# Altium footprint library Capacitor_THT.PcbLib: 378 footprints (part 16 of 24)
Each footprint in its own frame and in the unit in brackets; x right, y up, seen from the top. Pads: shape width x height; smd on the part's side, far side on the other; paste and mask are expansions set on the pad; w line width, h text height; cw(c..) or ccw(c..) is an arc to the next point about the centre after c.
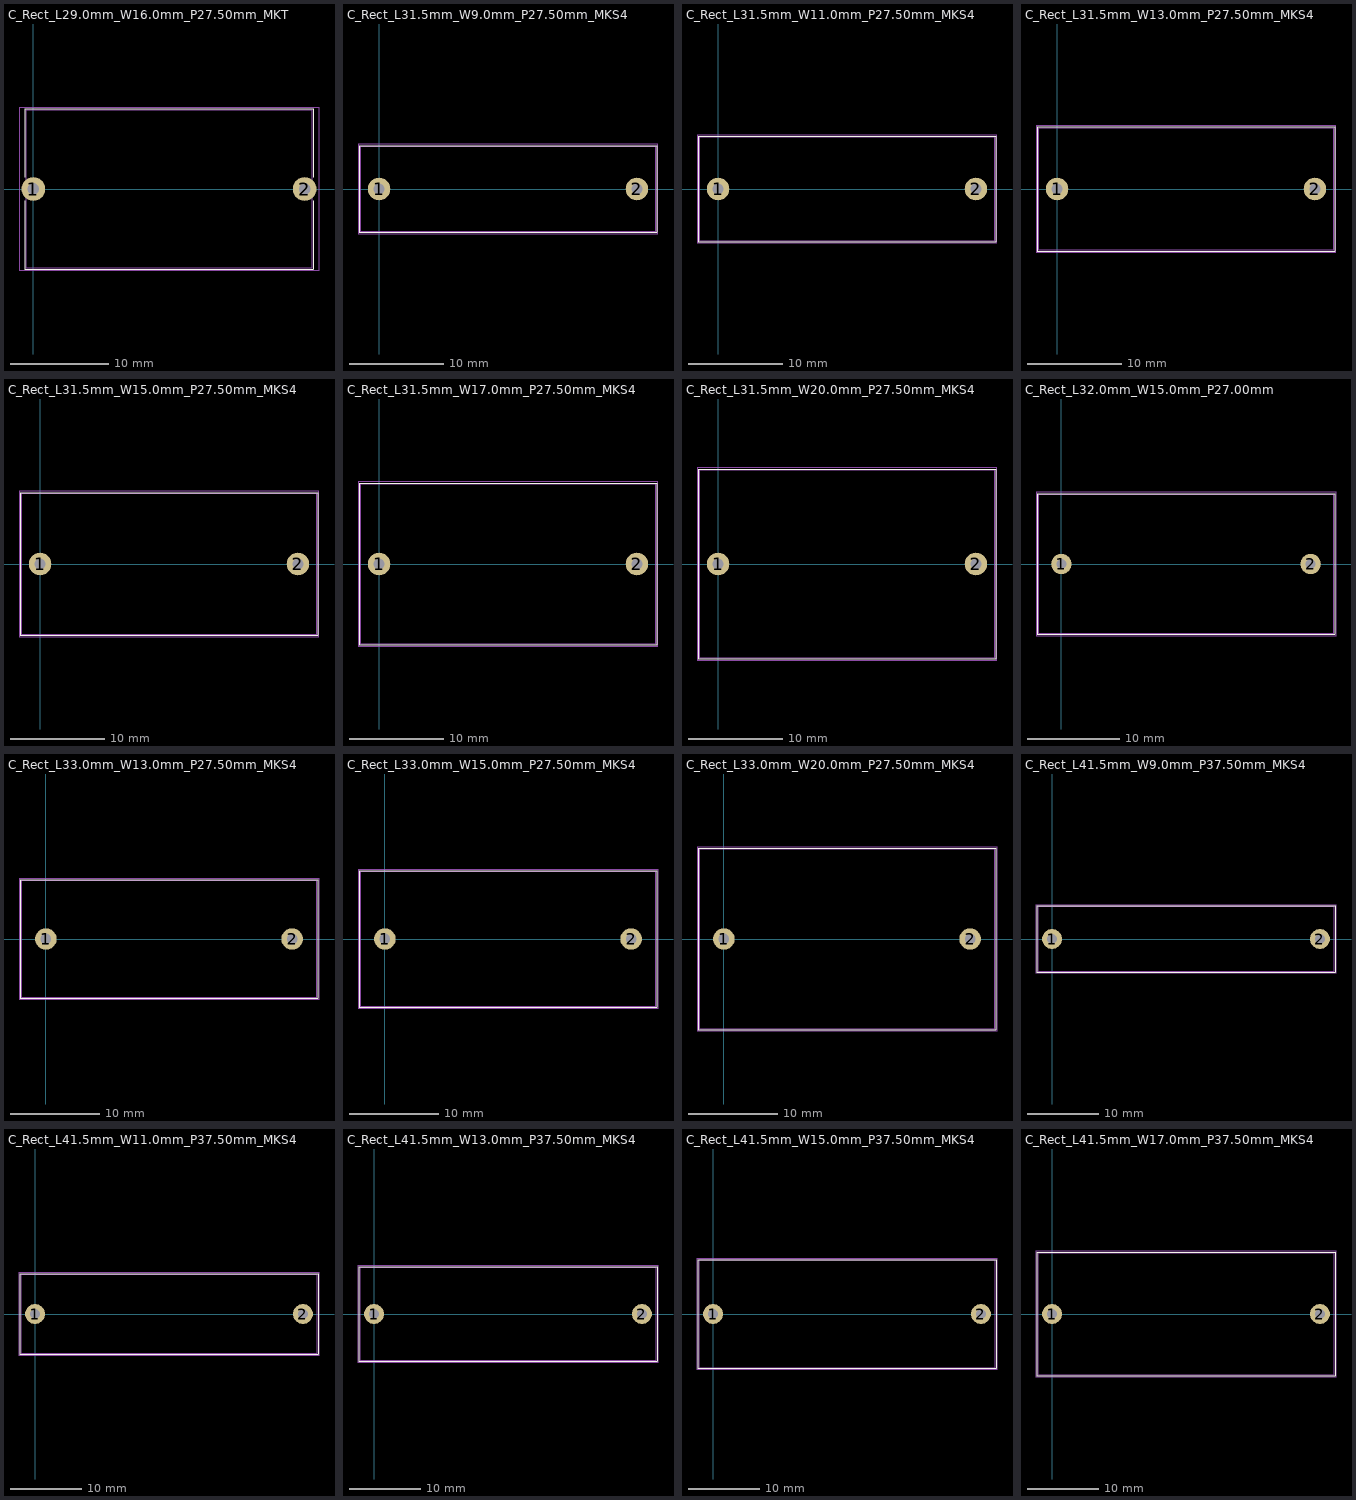
[diagram p15: the footprints below, top view; thin cyan lines are the x and y axes]

## C_Rect_L29.0mm_W16.0mm_P27.50mm_MKT [mm]
pads (2):
  round 2.4 hole 1.2: 1(0,0) 2(27.5,0)
F.SilkS:
  lines w0.12: -0.87,-1.185 -0.87,-8.12 28.37,-8.12 28.37,-1.185 ; -0.87,1.185 -0.87,8.12 28.37,8.12 28.37,1.185
F.CrtYd:
  lines w0.05: -1.45,-8.25 -1.45,8.25 28.95,8.25 28.95,-8.25 -1.45,-8.25
F.Fab:
  lines w0.1: -0.75,-8 -0.75,8 28.25,8 28.25,-8 -0.75,-8
  text "'.Designator'" at 9.703,-0.84 h1

## C_Rect_L31.5mm_W9.0mm_P27.50mm_MKS4 [mm]
pads (2):
  round 2.4 hole 1.2: 1(0,0) 2(27.5,0)
F.SilkS:
  lines w0.12: -2.12,-4.62 29.62,-4.62 29.62,4.62 -2.12,4.62 -2.12,-4.62
F.CrtYd:
  lines w0.05: -2.25,-4.75 29.75,-4.75 29.75,4.75 -2.25,4.75 -2.25,-4.75
F.Fab:
  lines w0.1: -2,-4.5 29.5,-4.5 29.5,4.5 -2,4.5 -2,-4.5
  text "'.Designator'" at 9.703,-0.84 h1

## C_Rect_L31.5mm_W11.0mm_P27.50mm_MKS4 [mm]
pads (2):
  round 2.4 hole 1.2: 1(0,0) 2(27.5,0)
F.SilkS:
  lines w0.12: -2.12,-5.62 -2.12,5.62 29.62,5.62 29.62,-5.62 -2.12,-5.62
F.CrtYd:
  lines w0.05: -2.25,-5.75 29.75,-5.75 29.75,5.75 -2.25,5.75 -2.25,-5.75
F.Fab:
  lines w0.1: -2,-5.5 29.5,-5.5 29.5,5.5 -2,5.5 -2,-5.5
  text "'.Designator'" at 9.703,-0.84 h1

## C_Rect_L31.5mm_W13.0mm_P27.50mm_MKS4 [mm]
pads (2):
  round 2.4 hole 1.2: 1(0,0) 2(27.5,0)
F.SilkS:
  lines w0.12: -2.12,-6.62 29.62,-6.62 29.62,6.62 -2.12,6.62 -2.12,-6.62
F.CrtYd:
  lines w0.05: -2.25,-6.75 -2.25,6.75 29.75,6.75 29.75,-6.75 -2.25,-6.75
F.Fab:
  lines w0.1: -2,-6.5 29.5,-6.5 29.5,6.5 -2,6.5 -2,-6.5
  text "'.Designator'" at 9.703,-0.84 h1

## C_Rect_L31.5mm_W15.0mm_P27.50mm_MKS4 [mm]
pads (2):
  round 2.4 hole 1.2: 1(0,0) 2(27.5,0)
F.SilkS:
  lines w0.12: -2.12,-7.62 29.62,-7.62 29.62,7.62 -2.12,7.62 -2.12,-7.62
F.CrtYd:
  lines w0.05: -2.25,-7.75 -2.25,7.75 29.75,7.75 29.75,-7.75 -2.25,-7.75
F.Fab:
  lines w0.1: -2,-7.5 29.5,-7.5 29.5,7.5 -2,7.5 -2,-7.5
  text "'.Designator'" at 9.703,-0.84 h1

## C_Rect_L31.5mm_W17.0mm_P27.50mm_MKS4 [mm]
pads (2):
  round 2.4 hole 1.2: 1(0,0) 2(27.5,0)
F.SilkS:
  lines w0.12: -2.12,-8.62 29.62,-8.62 29.62,8.62 -2.12,8.62 -2.12,-8.62
F.CrtYd:
  lines w0.05: -2.25,-8.75 -2.25,8.75 29.75,8.75 29.75,-8.75 -2.25,-8.75
F.Fab:
  lines w0.1: -2,-8.5 -2,8.5 29.5,8.5 29.5,-8.5 -2,-8.5
  text "'.Designator'" at 9.703,-0.84 h1

## C_Rect_L31.5mm_W20.0mm_P27.50mm_MKS4 [mm]
pads (2):
  round 2.4 hole 1.2: 1(0,0) 2(27.5,0)
F.SilkS:
  lines w0.12: -2.12,-10.12 29.62,-10.12 29.62,10.12 -2.12,10.12 -2.12,-10.12
F.CrtYd:
  lines w0.05: -2.25,-10.25 -2.25,10.25 29.75,10.25 29.75,-10.25 -2.25,-10.25
F.Fab:
  lines w0.1: -2,-10 29.5,-10 29.5,10 -2,10 -2,-10
  text "'.Designator'" at 9.703,-0.84 h1

## C_Rect_L32.0mm_W15.0mm_P27.00mm [mm]
pads (2):
  round 2.2 hole 1.1: 1(0,0) 2(27,0)
F.SilkS:
  lines w0.12: -2.62,-7.62 29.62,-7.62 29.62,7.62 -2.62,7.62 -2.62,-7.62
F.CrtYd:
  lines w0.05: -2.75,-7.75 -2.75,7.75 29.75,7.75 29.75,-7.75 -2.75,-7.75
F.Fab:
  lines w0.1: -2.5,-7.5 -2.5,7.5 29.5,7.5 29.5,-7.5 -2.5,-7.5
  text "'.Designator'" at 9.453,-0.84 h1

## C_Rect_L33.0mm_W13.0mm_P27.50mm_MKS4 [mm]
pads (2):
  round 2.4 hole 1.2: 1(0,0) 2(27.5,0)
F.SilkS:
  lines w0.12: -2.87,-6.62 30.37,-6.62 30.37,6.62 -2.87,6.62 -2.87,-6.62
F.CrtYd:
  lines w0.05: -3,-6.75 -3,6.75 30.5,6.75 30.5,-6.75 -3,-6.75
F.Fab:
  lines w0.1: -2.75,-6.5 30.25,-6.5 30.25,6.5 -2.75,6.5 -2.75,-6.5
  text "'.Designator'" at 9.703,-0.84 h1

## C_Rect_L33.0mm_W15.0mm_P27.50mm_MKS4 [mm]
pads (2):
  round 2.4 hole 1.2: 1(0,0) 2(27.5,0)
F.SilkS:
  lines w0.12: -2.87,-7.62 -2.87,7.62 30.37,7.62 30.37,-7.62 -2.87,-7.62
F.CrtYd:
  lines w0.05: -3,-7.75 -3,7.75 30.5,7.75 30.5,-7.75 -3,-7.75
F.Fab:
  lines w0.1: -2.75,-7.5 -2.75,7.5 30.25,7.5 30.25,-7.5 -2.75,-7.5
  text "'.Designator'" at 9.703,-0.84 h1

## C_Rect_L33.0mm_W20.0mm_P27.50mm_MKS4 [mm]
pads (2):
  round 2.4 hole 1.2: 1(0,0) 2(27.5,0)
F.SilkS:
  lines w0.12: -2.87,-10.12 30.37,-10.12 30.37,10.12 -2.87,10.12 -2.87,-10.12
F.CrtYd:
  lines w0.05: -3,-10.25 -3,10.25 30.5,10.25 30.5,-10.25 -3,-10.25
F.Fab:
  lines w0.1: -2.75,-10 30.25,-10 30.25,10 -2.75,10 -2.75,-10
  text "'.Designator'" at 9.703,-0.84 h1

## C_Rect_L41.5mm_W9.0mm_P37.50mm_MKS4 [mm]
pads (2):
  round 2.8 hole 1.4: 1(0,0) 2(37.5,0)
F.SilkS:
  lines w0.12: -2.12,-4.62 -2.12,4.62 39.62,4.62 39.62,-4.62 -2.12,-4.62
F.CrtYd:
  lines w0.05: -2.25,-4.75 39.75,-4.75 39.75,4.75 -2.25,4.75 -2.25,-4.75
F.Fab:
  lines w0.1: -2,-4.5 39.5,-4.5 39.5,4.5 -2,4.5 -2,-4.5
  text "'.Designator'" at 14.703,-0.84 h1

## C_Rect_L41.5mm_W11.0mm_P37.50mm_MKS4 [mm]
pads (2):
  round 2.8 hole 1.4: 1(0,0) 2(37.5,0)
F.SilkS:
  lines w0.12: -2.12,-5.62 -2.12,5.62 39.62,5.62 39.62,-5.62 -2.12,-5.62
F.CrtYd:
  lines w0.05: -2.25,-5.75 39.75,-5.75 39.75,5.75 -2.25,5.75 -2.25,-5.75
F.Fab:
  lines w0.1: -2,-5.5 39.5,-5.5 39.5,5.5 -2,5.5 -2,-5.5
  text "'.Designator'" at 14.703,-0.84 h1

## C_Rect_L41.5mm_W13.0mm_P37.50mm_MKS4 [mm]
pads (2):
  round 2.8 hole 1.4: 1(0,0) 2(37.5,0)
F.SilkS:
  lines w0.12: -2.12,-6.62 39.62,-6.62 39.62,6.62 -2.12,6.62 -2.12,-6.62
F.CrtYd:
  lines w0.05: -2.25,-6.75 -2.25,6.75 39.75,6.75 39.75,-6.75 -2.25,-6.75
F.Fab:
  lines w0.1: -2,-6.5 -2,6.5 39.5,6.5 39.5,-6.5 -2,-6.5
  text "'.Designator'" at 14.703,-0.84 h1

## C_Rect_L41.5mm_W15.0mm_P37.50mm_MKS4 [mm]
pads (2):
  round 2.8 hole 1.4: 1(0,0) 2(37.5,0)
F.SilkS:
  lines w0.12: -2.12,-7.62 39.62,-7.62 39.62,7.62 -2.12,7.62 -2.12,-7.62
F.CrtYd:
  lines w0.05: -2.25,-7.75 -2.25,7.75 39.75,7.75 39.75,-7.75 -2.25,-7.75
F.Fab:
  lines w0.1: -2,-7.5 -2,7.5 39.5,7.5 39.5,-7.5 -2,-7.5
  text "'.Designator'" at 14.703,-0.84 h1

## C_Rect_L41.5mm_W17.0mm_P37.50mm_MKS4 [mm]
pads (2):
  round 2.8 hole 1.4: 1(0,0) 2(37.5,0)
F.SilkS:
  lines w0.12: -2.12,-8.62 -2.12,8.62 39.62,8.62 39.62,-8.62 -2.12,-8.62
F.CrtYd:
  lines w0.05: -2.25,-8.75 39.75,-8.75 39.75,8.75 -2.25,8.75 -2.25,-8.75
F.Fab:
  lines w0.1: -2,-8.5 -2,8.5 39.5,8.5 39.5,-8.5 -2,-8.5
  text "'.Designator'" at 14.703,-0.84 h1